# EAGLE library part XCV300E_PQ240 (library xilinx-xcv)
xcv300e_pq240 edit this description Auto generated by make-symbol-device-package-bsdl.ulp Rev. 26 Source: xcv300e_pq240.bsd
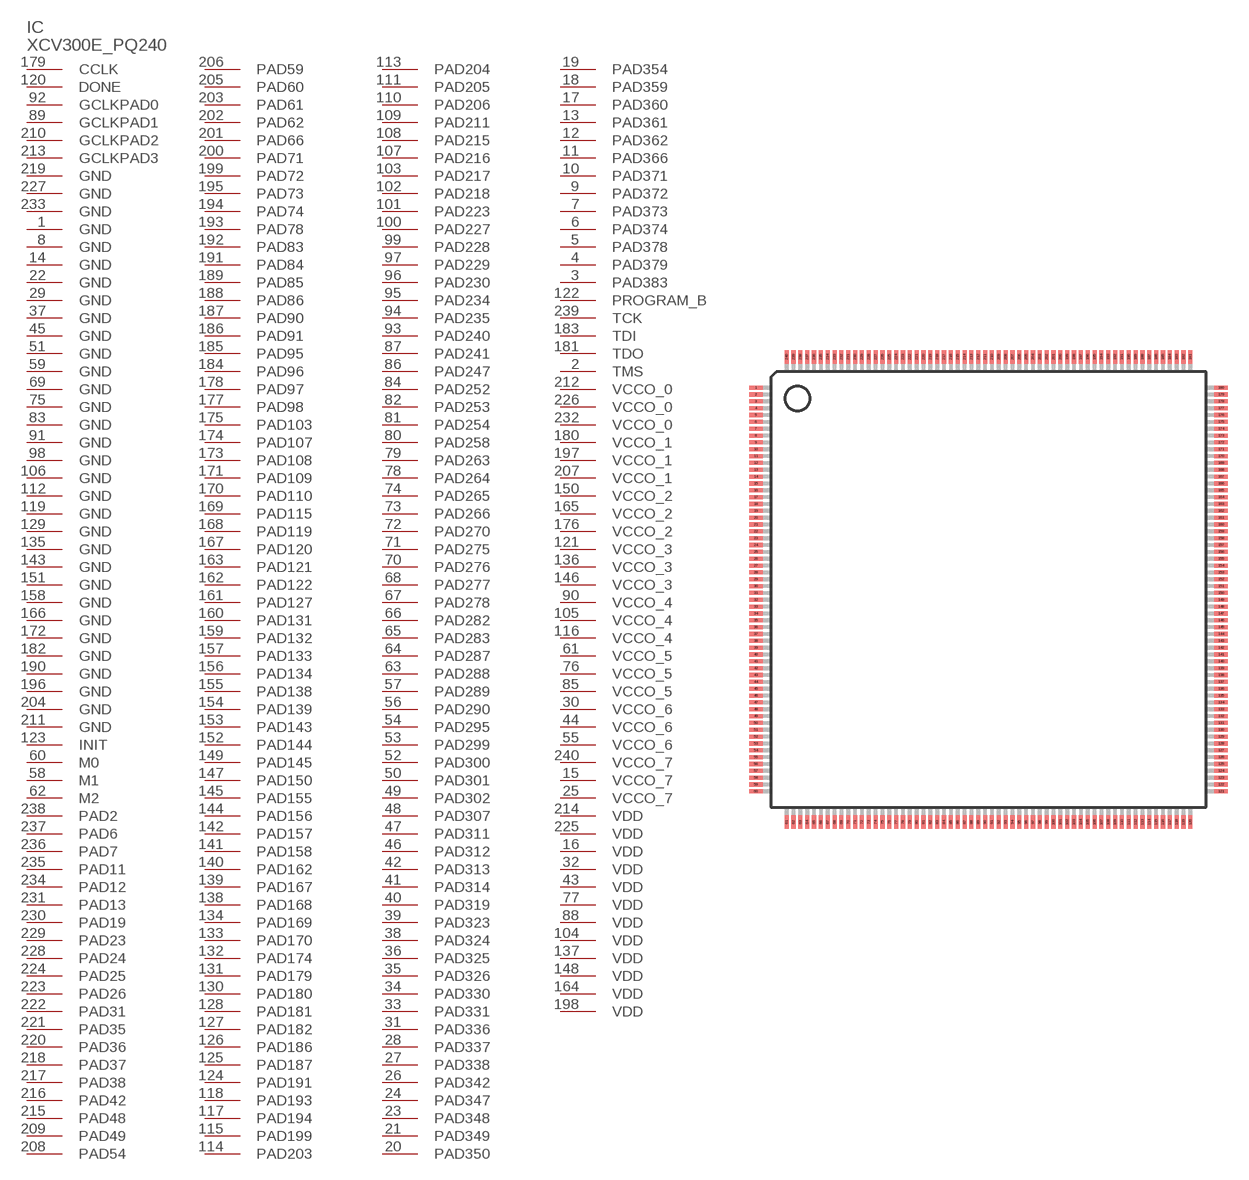
[diagram p88: symbol with the pads of PQ240; footprint PQ240]

Designator prefix IC

## XCV300E_PQ240 (OC_FARNELL: unknown; OC_NEWARK: unknown)  [PQ240]
1  GND  pwr
2  TMS  in
3  PAD383
4  PAD379
5  PAD378
6  PAD374
7  PAD373
8  GND  pwr
9  PAD372
10  PAD371
11  PAD366
12  PAD362
13  PAD361
14  GND  pwr
15  VCCO_7  pwr
16  VDD  pwr
17  PAD360
18  PAD359
19  PAD354
20  PAD350
21  PAD349
22  GND  pwr
23  PAD348
24  PAD347
25  VCCO_7  pwr
26  PAD342
27  PAD338
28  PAD337
29  GND  pwr
30  VCCO_6  pwr
31  PAD336
32  VDD  pwr
33  PAD331
34  PAD330
35  PAD326
36  PAD325
37  GND  pwr
38  PAD324
39  PAD323
40  PAD319
41  PAD314
42  PAD313
43  VDD  pwr
44  VCCO_6  pwr
45  GND  pwr
46  PAD312
47  PAD311
48  PAD307
49  PAD302
50  PAD301
51  GND  pwr
52  PAD300
53  PAD299
54  PAD295
55  VCCO_6  pwr
56  PAD290
57  PAD289
58  M1  in
59  GND  pwr
60  M0  in
61  VCCO_5  pwr
62  M2  in
63  PAD288
64  PAD287
65  PAD283
66  PAD282
67  PAD278
68  PAD277
69  GND  pwr
70  PAD276
71  PAD275
72  PAD270
73  PAD266
74  PAD265
75  GND  pwr
76  VCCO_5  pwr
77  VDD  pwr
78  PAD264
79  PAD263
80  PAD258
81  PAD254
82  PAD253
83  GND  pwr
84  PAD252
85  VCCO_5  pwr
86  PAD247
87  PAD241
88  VDD  pwr
89  GCLKPAD1  in
90  VCCO_4  pwr
91  GND  pwr
92  GCLKPAD0  in
93  PAD240
94  PAD235
95  PAD234
96  PAD230
97  PAD229
98  GND  pwr
99  PAD228
100  PAD227
101  PAD223
102  PAD218
103  PAD217
104  VDD  pwr
105  VCCO_4  pwr
106  GND  pwr
107  PAD216
108  PAD215
109  PAD211
110  PAD206
111  PAD205
112  GND  pwr
113  PAD204
114  PAD203
115  PAD199
116  VCCO_4  pwr
117  PAD194
118  PAD193
119  GND  pwr
120  DONE
121  VCCO_3  pwr
122  PROGRAM_B  in
123  INIT
124  PAD191
125  PAD187
126  PAD186
127  PAD182
128  PAD181
129  GND  pwr
130  PAD180
131  PAD179
132  PAD174
133  PAD170
134  PAD169
135  GND  pwr
136  VCCO_3  pwr
137  VDD  pwr
138  PAD168
139  PAD167
140  PAD162
141  PAD158
142  PAD157
143  GND  pwr
144  PAD156
145  PAD155
146  VCCO_3  pwr
147  PAD150
148  VDD  pwr
149  PAD145
150  VCCO_2  pwr
151  GND  pwr
152  PAD144
153  PAD143
154  PAD139
155  PAD138
156  PAD134
157  PAD133
158  GND  pwr
159  PAD132
160  PAD131
161  PAD127
162  PAD122
163  PAD121
164  VDD  pwr
165  VCCO_2  pwr
166  GND  pwr
167  PAD120
168  PAD119
169  PAD115
170  PAD110
171  PAD109
172  GND  pwr
173  PAD108
174  PAD107
175  PAD103
176  VCCO_2  pwr
177  PAD98
178  PAD97
179  CCLK
180  VCCO_1  pwr
181  TDO  out
182  GND  pwr
183  TDI  in
184  PAD96
185  PAD95
186  PAD91
187  PAD90
188  PAD86
189  PAD85
190  GND  pwr
191  PAD84
192  PAD83
193  PAD78
194  PAD74
195  PAD73
196  GND  pwr
197  VCCO_1  pwr
198  VDD  pwr
199  PAD72
200  PAD71
201  PAD66
202  PAD62
203  PAD61
204  GND  pwr
205  PAD60
206  PAD59
207  VCCO_1  pwr
208  PAD54
209  PAD49
210  GCLKPAD2  in
211  GND  pwr
212  VCCO_0  pwr
213  GCLKPAD3  in
214  VDD  pwr
215  PAD48
216  PAD42
217  PAD38
218  PAD37
219  GND  pwr
220  PAD36
221  PAD35
222  PAD31
223  PAD26
224  PAD25
225  VDD  pwr
226  VCCO_0  pwr
227  GND  pwr
228  PAD24
229  PAD23
230  PAD19
231  PAD13
232  VCCO_0  pwr
233  GND  pwr
234  PAD12
235  PAD11
236  PAD7
237  PAD6
238  PAD2
239  TCK  in
240  VCCO_7  pwr

## Footprint PQ240 (pad centres in mm)
PQ240 Auto generated by make-symbol-device-package-bsdl.ulp Rev. 26
smd 1 x 0.3: 1 -17,14.75; 2 -17,14.25; 3 -17,13.75; 4 -17,13.25; 5 -17,12.75; 6 -17,12.25; 7 -17,11.75; 8 -17,11.25; 9 -17,10.75; 10 -17,10.25; 11 -17,9.75; 12 -17,9.25; 13 -17,8.75; 14 -17,8.25; 15 -17,7.75; 16 -17,7.25; 17 -17,6.75; 18 -17,6.25; 19 -17,5.75; 20 -17,5.25; 21 -17,4.75; 22 -17,4.25; 23 -17,3.75; 24 -17,3.25; 25 -17,2.75; 26 -17,2.25; 27 -17,1.75; 28 -17,1.25; 29 -17,0.75; 30 -17,0.25; 31 -17,-0.25; 32 -17,-0.75; 33 -17,-1.25; 34 -17,-1.75; 35 -17,-2.25; 36 -17,-2.75; 37 -17,-3.25; 38 -17,-3.75; 39 -17,-4.25; 40 -17,-4.75; 41 -17,-5.25; 42 -17,-5.75; 43 -17,-6.25; 44 -17,-6.75; 45 -17,-7.25; 46 -17,-7.75; 47 -17,-8.25; 48 -17,-8.75; 49 -17,-9.25; 50 -17,-9.75; 51 -17,-10.25; 52 -17,-10.75; 53 -17,-11.25; 54 -17,-11.75; 55 -17,-12.25; 56 -17,-12.75; 57 -17,-13.25; 58 -17,-13.75; 59 -17,-14.25; 60 -17,-14.75; 121 17,-14.75; 122 17,-14.25; 123 17,-13.75; 124 17,-13.25; 125 17,-12.75; 126 17,-12.25; 127 17,-11.75; 128 17,-11.25; 129 17,-10.75; 130 17,-10.25; 131 17,-9.75; 132 17,-9.25; 133 17,-8.75; 134 17,-8.25; 135 17,-7.75; 136 17,-7.25; 137 17,-6.75; 138 17,-6.25; 139 17,-5.75; 140 17,-5.25; 141 17,-4.75; 142 17,-4.25; 143 17,-3.75; 144 17,-3.25; 145 17,-2.75; 146 17,-2.25; 147 17,-1.75; 148 17,-1.25; 149 17,-0.75; 150 17,-0.25; 151 17,0.25; 152 17,0.75; 153 17,1.25; 154 17,1.75; 155 17,2.25; 156 17,2.75; 157 17,3.25; 158 17,3.75; 159 17,4.25; 160 17,4.75; 161 17,5.25; 162 17,5.75; 163 17,6.25; 164 17,6.75; 165 17,7.25; 166 17,7.75; 167 17,8.25; 168 17,8.75; 169 17,9.25; 170 17,9.75; 171 17,10.25; 172 17,10.75; 173 17,11.25; 174 17,11.75; 175 17,12.25; 176 17,12.75; 177 17,13.25; 178 17,13.75; 179 17,14.25; 180 17,14.75
smd 0.3 x 1: 61 -14.75,-17; 62 -14.25,-17; 63 -13.75,-17; 64 -13.25,-17; 65 -12.75,-17; 66 -12.25,-17; 67 -11.75,-17; 68 -11.25,-17; 69 -10.75,-17; 70 -10.25,-17; 71 -9.75,-17; 72 -9.25,-17; 73 -8.75,-17; 74 -8.25,-17; 75 -7.75,-17; 76 -7.25,-17; 77 -6.75,-17; 78 -6.25,-17; 79 -5.75,-17; 80 -5.25,-17; 81 -4.75,-17; 82 -4.25,-17; 83 -3.75,-17; 84 -3.25,-17; 85 -2.75,-17; 86 -2.25,-17; 87 -1.75,-17; 88 -1.25,-17; 89 -0.75,-17; 90 -0.25,-17; 91 0.25,-17; 92 0.75,-17; 93 1.25,-17; 94 1.75,-17; 95 2.25,-17; 96 2.75,-17; 97 3.25,-17; 98 3.75,-17; 99 4.25,-17; 100 4.75,-17; 101 5.25,-17; 102 5.75,-17; 103 6.25,-17; 104 6.75,-17; 105 7.25,-17; 106 7.75,-17; 107 8.25,-17; 108 8.75,-17; 109 9.25,-17; 110 9.75,-17; 111 10.25,-17; 112 10.75,-17; 113 11.25,-17; 114 11.75,-17; 115 12.25,-17; 116 12.75,-17; 117 13.25,-17; 118 13.75,-17; 119 14.25,-17; 120 14.75,-17; 181 14.75,17; 182 14.25,17; 183 13.75,17; 184 13.25,17; 185 12.75,17; 186 12.25,17; 187 11.75,17; 188 11.25,17; 189 10.75,17; 190 10.25,17; 191 9.75,17; 192 9.25,17; 193 8.75,17; 194 8.25,17; 195 7.75,17; 196 7.25,17; 197 6.75,17; 198 6.25,17; 199 5.75,17; 200 5.25,17; 201 4.75,17; 202 4.25,17; 203 3.75,17; 204 3.25,17; 205 2.75,17; 206 2.25,17; 207 1.75,17; 208 1.25,17; 209 0.75,17; 210 0.25,17; 211 -0.25,17; 212 -0.75,17; 213 -1.25,17; 214 -1.75,17; 215 -2.25,17; 216 -2.75,17; 217 -3.25,17; 218 -3.75,17; 219 -4.25,17; 220 -4.75,17; 221 -5.25,17; 222 -5.75,17; 223 -6.25,17; 224 -6.75,17; 225 -7.25,17; 226 -7.75,17; 227 -8.25,17; 228 -8.75,17; 229 -9.25,17; 230 -9.75,17; 231 -10.25,17; 232 -10.75,17; 233 -11.25,17; 234 -11.75,17; 235 -12.25,17; 236 -12.75,17; 237 -13.25,17; 238 -13.75,17; 239 -14.25,17; 240 -14.75,17